# Altium footprint library HDR_1X4_1.25.PcbLib: 1 footprints
Each footprint in its own frame and in the unit in brackets; x right, y up, seen from the top. Pads: shape width x height; smd on the part's side, far side on the other; paste and mask are expansions set on the pad; w line width, h text height; cw(c..) or ccw(c..) is an arc to the next point about the centre after c.
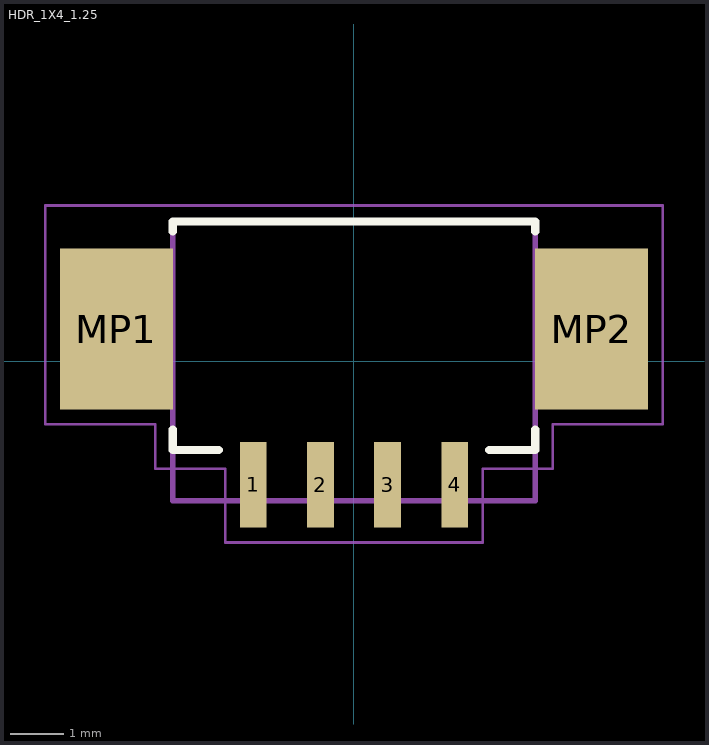
[diagram p0: the footprint, top view; thin cyan lines are the x and y axes]

## HDR_1X4_1.25 [mm]
height 3.55
pads (6):
  rect 0.5x1.6 smd: 1(-1.875,-2.3) 2(-0.625,-2.3) 3(0.625,-2.3) 4(1.875,-2.3)
  rect 2.1x3 smd: MP1(-4.425,0.6) MP2(4.425,0.6)
Top Overlay:
  lines w0.152: -3.375,-1.27 -3.375,-1.651 -2.52,-1.651 ; -3.375,2.413 -3.375,2.6 3.375,2.6 ; 2.52,-1.651 3.375,-1.651 3.375,-1.27 ; 3.375,2.413 3.375,2.6
Mechanical 13:
  lines w0.1: -3.375,-2.6 -3.375,2.6 3.375,2.6 3.375,-2.6 -3.375,-2.6
Mechanical 15:
  lines w0.05: -5.75,-1.175 -3.7,-1.175 -3.7,-2.002 -2.4,-2.002 -2.4,-3.375 2.4,-3.375 2.4,-2.002 3.7,-2.002 3.7,-1.175 5.75,-1.175 5.75,2.9 -5.75,2.9 -5.75,-1.175
3D body: height 3.55, standoff 0, extent -5.268,-2.338 5.268,2.862